# Altium footprint library QNF.PcbLib: 1 footprints
Each footprint in its own frame and in the unit in brackets; x right, y up, seen from the top. Pads: shape width x height; smd on the part's side, far side on the other; paste and mask are expansions set on the pad; w line width, h text height; cw(c..) or ccw(c..) is an arc to the next point about the centre after c.
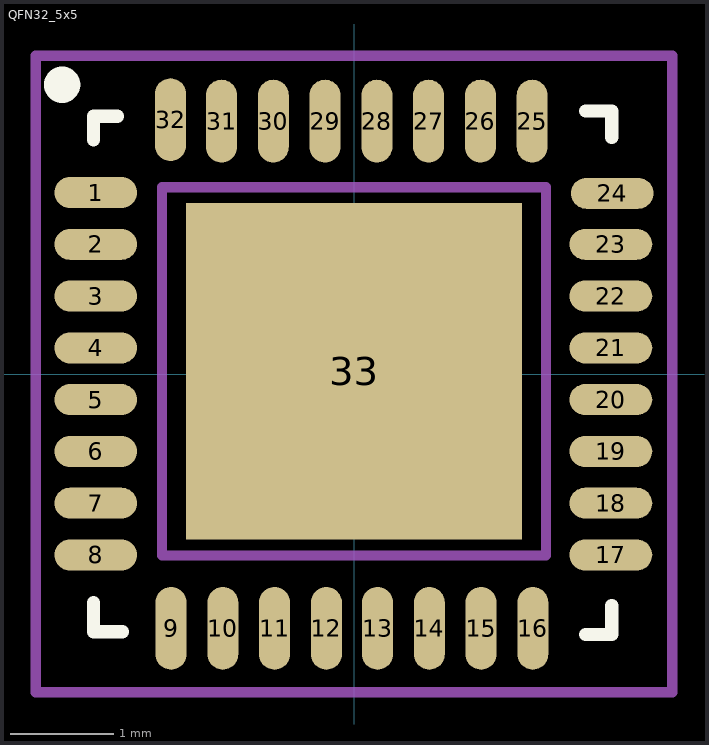
[diagram p0: the footprint, top view; thin cyan lines are the x and y axes]

## QFN32_5x5 [mm] "Thin QFP, 48-Leads, Body 7x7mm, Pitch 0.5mm, IPC Medium Density"
height 1.6
pads (33):
  oval 0.8x0.3 smd mask+0.102: 1(-2.495,1.752) 2(-2.495,1.252) 3(-2.495,0.752) 4(-2.495,0.252) 5(-2.495,-0.248) 6(-2.495,-0.748) 7(-2.495,-1.248) 8(-2.495,-1.748) 17(2.481,-1.748) 18(2.481,-1.248) 19(2.481,-0.748) 20(2.481,-0.248) 21(2.481,0.252) 22(2.481,0.752) 23(2.481,1.252) 24(2.495,1.746)
  oval 0.3x0.8 smd mask+0.102: 9(-1.767,-2.457) 10(-1.267,-2.457) 11(-0.767,-2.457) 12(-0.267,-2.457) 13(0.228,-2.457) 14(0.727,-2.457) 15(1.228,-2.457) 16(1.727,-2.457) 25(1.721,2.443) 26(1.221,2.443) 27(0.721,2.443) 28(0.221,2.443) 29(-0.279,2.443) 30(-0.779,2.443) 31(-1.279,2.443) 32(-1.772,2.457)
  rect 3.25x3.25 smd: 33(0,0.025)
Top Overlay:
  circle w0.25: c-2.819,2.794 r0.051
  lines w0.127: -2.515,-2.21 -2.515,-2.489 -2.235,-2.489 ; -2.515,2.261 -2.515,2.489 -2.286,2.489 ; 2.235,-2.515 2.489,-2.515 2.489,-2.235 ; 2.235,2.54 2.489,2.54 2.489,2.286
Mechanical 13:
  circle w0.1: c-1.366,1.288 r0.18
  lines w0.1: -1.854,-1.753 -1.854,1.803 1.854,1.803 1.854,-1.753 -1.854,-1.753
Mechanical 15:
  lines w0.1: -0.52,-0.007 0.48,-0.007 ; -0.02,-0.507 -0.02,0.493 ; -3.073,-3.073 -3.073,3.073 3.073,3.073 3.073,-3.073 -3.073,-3.073
3D body "QFN32 5x5.STEP": height 0.9, standoff -0.03, extent -2.52,-2.507 2.48,2.493